# EAGLE library part 2616-3101 (library con-wago_2616)
Stand: 01.01.2017. Die jeweils aktuellen Daten zu diesem Artikel finden Sie in unserem Produktkatalog, den Sie unter www.wago.com einsehen können. As of: 01/01/2017. Please find the newest data for this article in our product catalogue, which can be viewed under www.wago.com.
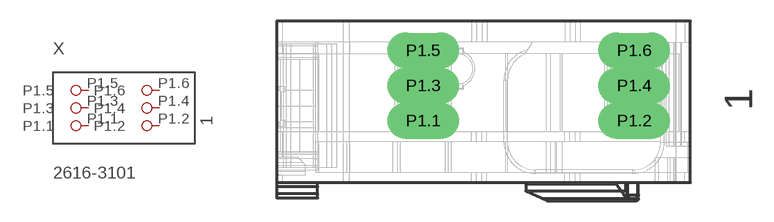
[diagram p23: symbol with the pads of P-2616-3101; footprint P-2616-3101]

Designator prefix X

## 2616-3101  [P-2616-3101]
P1.1  P1.1
P1.2  P1.2
P1.3  P1.3
P1.4  P1.4
P1.5  P1.5
P1.6  P1.6

## Footprint P-2616-3101 (pad centres in mm)
drill 1.7 long: P1.1 -4.235,-0.7; P1.2 10.765,-0.7; P1.3 -4.235,1.8; P1.4 10.765,1.8; P1.5 -4.235,4.3; P1.6 10.765,4.3